# EAGLE library part LP3878MR-ADJ/NOPB (library Ava)
V REG, 0.475VDO, 0.8A, 1V TO 5.5V, SO PowerPAD-8
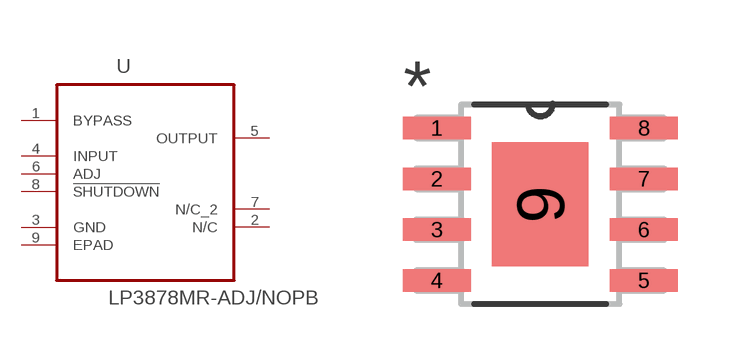
[diagram p57: symbol with the pads of SOIC127P600X168-9N; footprint SOIC127P600X168-9N]

Designator prefix U

## LP3878MR-ADJ/NOPB (MPN: LP3878MR-ADJ/NOPB; OC_FARNELL: 2296027; OC_NEWARK: 65K6513; PACKAGE: SO PowerPAD-8; SUPPLIER: TEXAS INSTRUMENTS)  [SOIC127P600X168-9N]
1  BYPASS  pas
2  N/C  nc
3  GND  pas
4  INPUT  in
5  OUTPUT  out
6  ADJ  in
7  N/C_2  nc
8  !SHUTDOWN  in
9  EPAD  pas

## Footprint SOIC127P600X168-9N (pad centres in mm)
smd 1.702 x 0.559: 1 -2.591,1.905; 2 -2.591,0.635; 3 -2.591,-0.635; 4 -2.591,-1.905; 5 2.591,-1.905; 6 2.591,-0.635; 7 2.591,0.635; 8 2.591,1.905
smd 2.413 x 3.099: 9 0,0